# EAGLE library part ICE40-HX1K-VQFP100 (library MIDI router MCU parts)
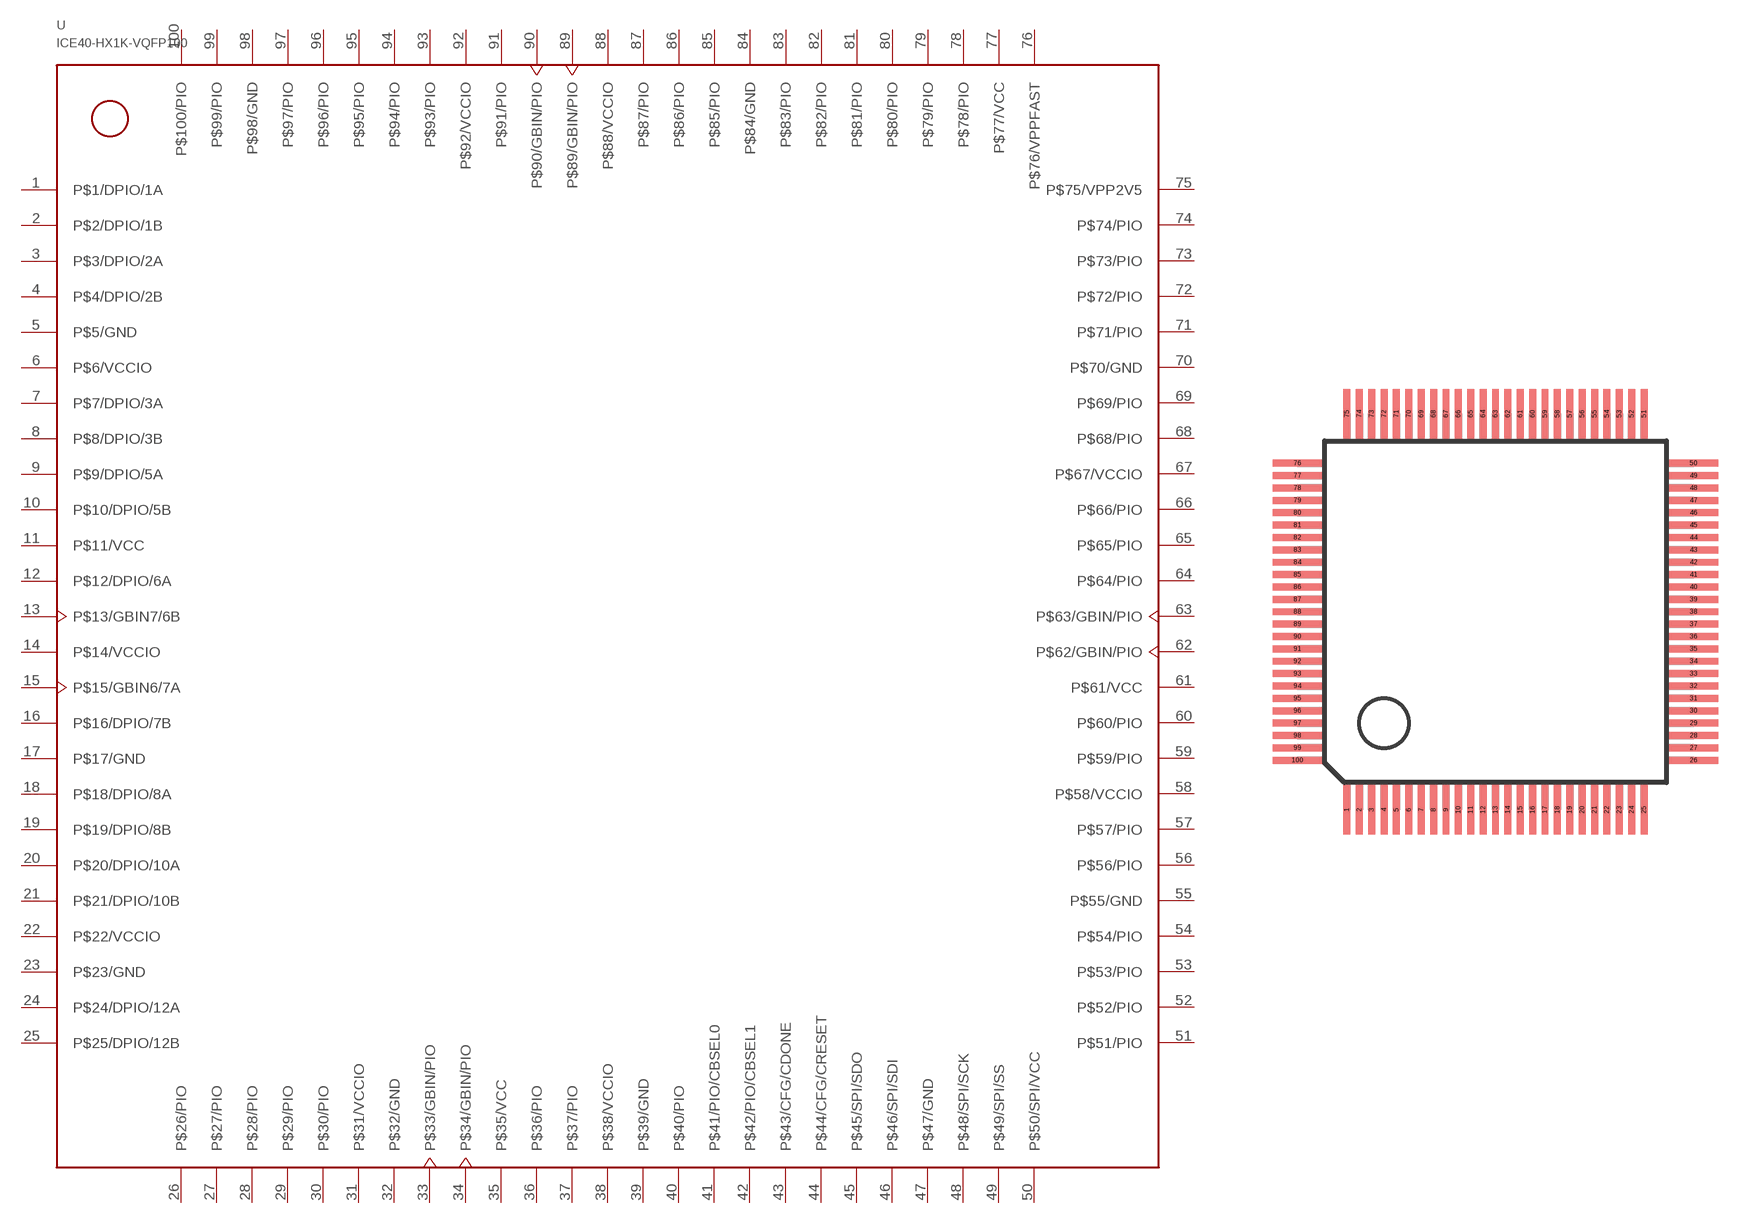
[diagram p4: symbol with the pads of TQFP100-14X14; footprint TQFP100-14X14]

Designator prefix -

## ICE40-HX1K-VQFP100  [TQFP100-14X14]
1  P$1/DPIO/1A
2  P$2/DPIO/1B
3  P$3/DPIO/2A
4  P$4/DPIO/2B
5  P$5/GND
6  P$6/VCCIO
7  P$7/DPIO/3A
8  P$8/DPIO/3B
9  P$9/DPIO/5A
10  P$10/DPIO/5B
11  P$11/VCC
12  P$12/DPIO/6A
13  P$13/GBIN7/6B
14  P$14/VCCIO
15  P$15/GBIN6/7A
16  P$16/DPIO/7B
17  P$17/GND
18  P$18/DPIO/8A
19  P$19/DPIO/8B
20  P$20/DPIO/10A
21  P$21/DPIO/10B
22  P$22/VCCIO
23  P$23/GND
24  P$24/DPIO/12A
25  P$25/DPIO/12B
26  P$26/PIO
27  P$27/PIO
28  P$28/PIO
29  P$29/PIO
30  P$30/PIO
31  P$31/VCCIO
32  P$32/GND
33  P$33/GBIN/PIO
34  P$34/GBIN/PIO
35  P$35/VCC
36  P$36/PIO
37  P$37/PIO
38  P$38/VCCIO
39  P$39/GND
40  P$40/PIO
41  P$41/PIO/CBSEL0
42  P$42/PIO/CBSEL1
43  P$43/CFG/CDONE
44  P$44/CFG/CRESET
45  P$45/SPI/SDO
46  P$46/SPI/SDI
47  P$47/GND
48  P$48/SPI/SCK
49  P$49/SPI/SS
50  P$50/SPI/VCC
51  P$51/PIO
52  P$52/PIO
53  P$53/PIO
54  P$54/PIO
55  P$55/GND
56  P$56/PIO
57  P$57/PIO
58  P$58/VCCIO
59  P$59/PIO
60  P$60/PIO
61  P$61/VCC
62  P$62/GBIN/PIO
63  P$63/GBIN/PIO
64  P$64/PIO
65  P$65/PIO
66  P$66/PIO
67  P$67/VCCIO
68  P$68/PIO
69  P$69/PIO
70  P$70/GND
71  P$71/PIO
72  P$72/PIO
73  P$73/PIO
74  P$74/PIO
75  P$75/VPP2V5
76  P$76/VPPFAST
77  P$77/VCC
78  P$78/PIO
79  P$79/PIO
80  P$80/PIO
81  P$81/PIO
82  P$82/PIO
83  P$83/PIO
84  P$84/GND
85  P$85/PIO
86  P$86/PIO
87  P$87/PIO
88  P$88/VCCIO
89  P$89/GBIN/PIO
90  P$90/GBIN/PIO
91  P$91/PIO
92  P$92/VCCIO
93  P$93/PIO
94  P$94/PIO
95  P$95/PIO
96  P$96/PIO
97  P$97/PIO
98  P$98/GND
99  P$99/PIO
100  P$100/PIO

## Footprint TQFP100-14X14 (pad centres in mm)
Thin Quad Flat Pack 14x14 mm
smd 0.28 x 2: 1 -6,-8; 2 -5.5,-8; 3 -5,-8; 4 -4.5,-8; 5 -4,-8; 6 -3.5,-8; 7 -3,-8; 8 -2.5,-8; 9 -2,-8; 10 -1.5,-8; 11 -1,-8; 12 -0.5,-8; 13 0,-8; 14 0.5,-8; 15 1,-8; 16 1.5,-8; 17 2,-8; 18 2.5,-8; 19 3,-8; 20 3.5,-8; 21 4,-8; 22 4.5,-8; 23 5,-8; 24 5.5,-8; 25 6,-8; 51 6,8; 52 5.5,8; 53 5,8; 54 4.5,8; 55 4,8; 56 3.5,8; 57 3,8; 58 2.5,8; 59 2,8; 60 1.5,8; 61 1,8; 62 0.5,8; 63 0,8; 64 -0.5,8; 65 -1,8; 66 -1.5,8; 67 -2,8; 68 -2.5,8; 69 -3,8; 70 -3.5,8; 71 -4,8; 72 -4.5,8; 73 -5,8; 74 -5.5,8; 75 -6,8
smd 2 x 0.28: 26 8,-6; 27 8,-5.5; 28 8,-5; 29 8,-4.5; 30 8,-4; 31 8,-3.5; 32 8,-3; 33 8,-2.5; 34 8,-2; 35 8,-1.5; 36 8,-1; 37 8,-0.5; 38 8,0; 39 8,0.5; 40 8,1; 41 8,1.5; 42 8,2; 43 8,2.5; 44 8,3; 45 8,3.5; 46 8,4; 47 8,4.5; 48 8,5; 49 8,5.5; 50 8,6; 76 -8,6; 77 -8,5.5; 78 -8,5; 79 -8,4.5; 80 -8,4; 81 -8,3.5; 82 -8,3; 83 -8,2.5; 84 -8,2; 85 -8,1.5; 86 -8,1; 87 -8,0.5; 88 -8,0; 89 -8,-0.5; 90 -8,-1; 91 -8,-1.5; 92 -8,-2; 93 -8,-2.5; 94 -8,-3; 95 -8,-3.5; 96 -8,-4; 97 -8,-4.5; 98 -8,-5; 99 -8,-5.5; 100 -8,-6